# Altium schematic symbol library Q_2PNP_RN2507.SchLib: 1 symbol
Pins are listed as number, name and electrical type; pins without a type are passive.

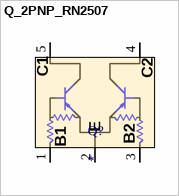
[diagram p0: symbol Q_2PNP_RN2507]

## Q_2PNP_RN2507
designator Q?
pins: 1 B1 "Switching", 2 E "Switching", 3 B2 "Switching", 4 C2 "Switching", 5 C1 "Switching"